# EAGLE library part USBLC6-2SC6 (library USBLC6-2SC6)
5V TSV diode for protecting circuit board inputs. Also has Vcc Protection. Digikey 497-5235-6-ND
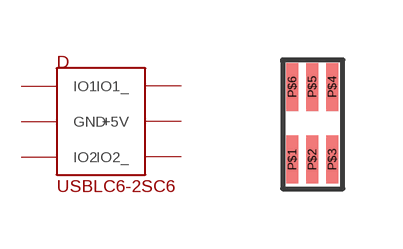
[diagram p0: symbol with the pads of USBLC6-2SC6; footprint USBLC6-2SC6]

Designator prefix D

## USBLC6-2SC6  [USBLC6-2SC6]
P$1  IO1
P$2  GND
P$3  IO2
P$4  IO2_
P$5  +5V
P$6  IO1_

## Footprint USBLC6-2SC6 (pad centres in mm)
smd 0.3 x 1.2: P$1 -0.5,-0.91; P$2 0,-0.91; P$3 0.5,-0.91; P$4 0.5,0.91; P$5 0,0.91; P$6 -0.5,0.91